# EAGLE library part LMP7704 (library Wireless EEG UPDATED)
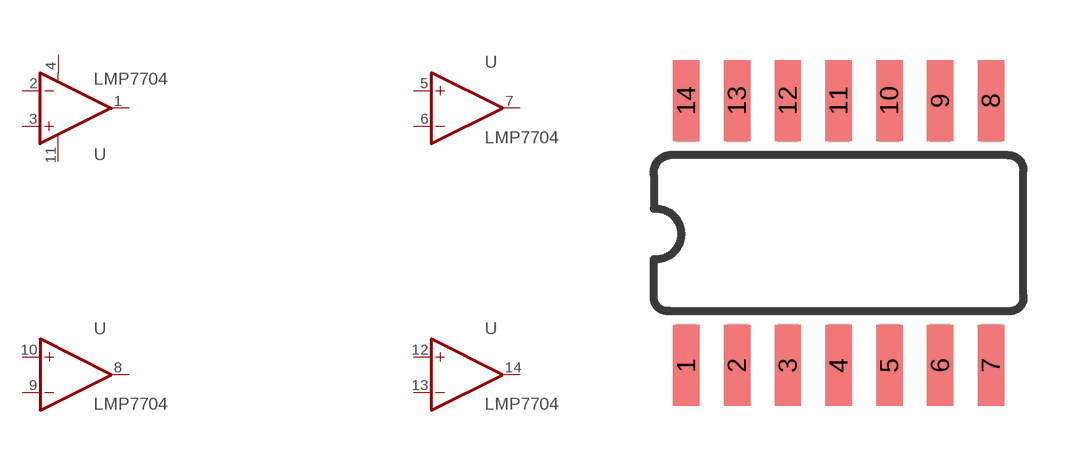
[diagram p1: symbol with the pads of SOIC14; footprint SOIC14]

Designator prefix -

## LMP7704  [SOIC14]
1  OUT  out
2  -IN  in
3  +IN  in
4  V+  pwr
5  +IN1  in
6  -IN1  in
7  OUT1  out
8  OUT2  out
9  -IN2  in
10  +IN2  in
11  V-  pwr
12  +IN3  in
13  -IN3  in
14  OUT3  out

## Footprint SOIC14 (pad centres in mm)
smd 0.66 x 2.032: 1 -3.175,-3.315; 2 -1.905,-3.315; 3 -0.635,-3.315; 4 0.635,-3.315; 5 1.905,-3.315; 6 3.175,-3.315; 7 4.445,-3.315; 8 4.445,3.315; 9 3.175,3.315; 10 1.905,3.315; 11 0.635,3.315; 12 -0.635,3.315; 13 -1.905,3.315; 14 -3.175,3.315